# Altium schematic symbol library 8.1 - 模组类.SCHLIB: 4 symbols
Pins are listed as number, name and electrical type; pins without a type are passive.

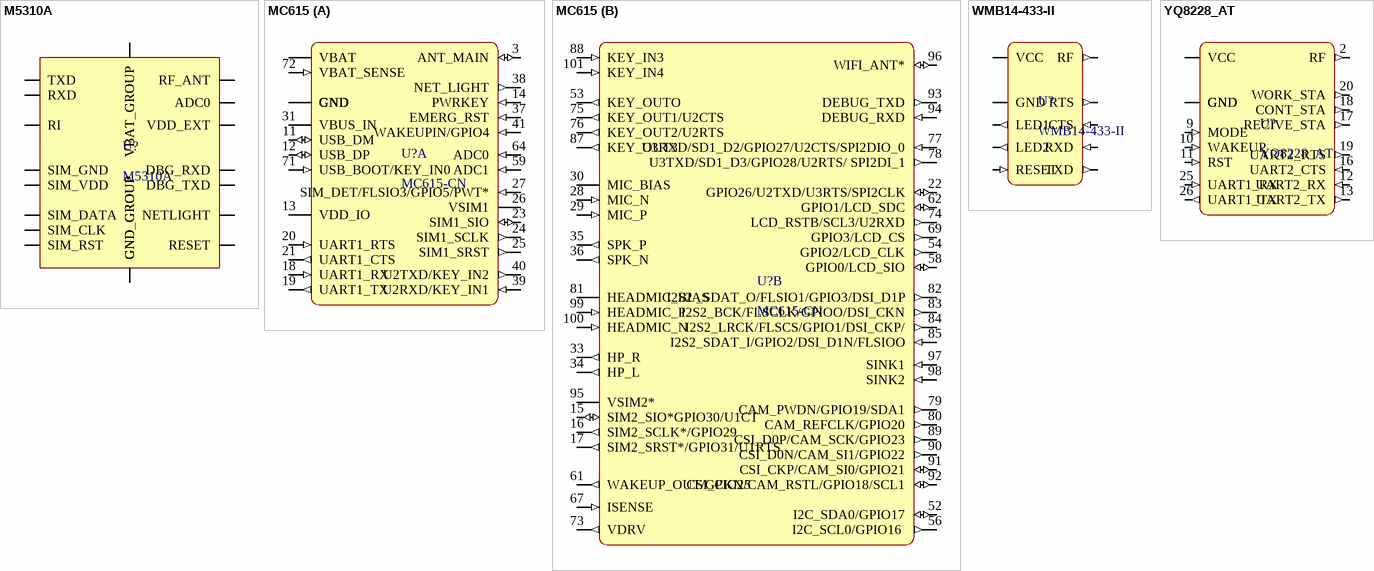
[diagram p0: symbols M5310A to YQ8228_AT]

## M5310A
designator U?
M5310-A 模组是一款基于 Hi2115 平台的工业级 NB-IOT 通信模组，贴片式LCC-30pin封装，19mm×18.4mm×2.2mm
footprint LCC30 (适用于移动NB模组_M5310系列)
pins: 1 TXD, 2 RXD, 3 RESERVED hidden, 4 RESERVED hidden, 5 RESERVED hidden, 6 RESERVED hidden, 7 ADC0, 8 SIM_GND, 9 RESERVED hidden, 10 SIM_DATA, 11 SIM_VDD, 12 SIM_CLK, 13 SIM_RST, 14 RESERVED hidden, 15 RESET, 16 VDD_EXT, 17 RESERVED hidden, 18 DBG_TXD, 19 DBG_RXD, 20 RESERVED hidden, 21 NETLIGHT, 22 RESERVED hidden, 23 RI, 24 VBAT_GROUP, 25 VBAT_GROUP, 26 GND_GROUP, 27 GND_GROUP, 28 RF_ANT, 29 GND_GROUP, 30 GND_GROUP

## MC615
designator U?, comment MC615-CN
MC615-CN 系列模块采用 LCC 50PIN+LGA 51PIN 封装，共 101 个管脚，适用于 TDD-LTE/FDD-LTE 多种网络制式、多频段的宽带无线终端产品。
footprint LCC_50+LGA_51 (适用于MC615系列CAT1模组)
part A pins: 1 GND "地", 2 GND "地", 3 ANT_MAIN (io) "主集天线", 4 GND "地", 5 GND "地", 6 NC hidden "-", 7 GND "地", 8 GND "地", 9 VBAT "VBAT模块电源输入(3.4-4.3V)", 10 VBAT "VBAT模块电源输入(3.4-4.3V)", 11 USB_DM (io) "USB信号DM", 12 USB_DP (io) "USB信号DP", 13 VDD_IO "模块数字电平，1.8V输出", 14 PWRKEY (in) "模块开机/关机，低电平有效", 18 UART1_RX (in) "模块串口1数据接收", 19 UART1_TX (out) "模块串口1数据发送", 20 UART1_RTS (in) "DTE请求发送数据", 21 UART1_CTS (out) "模块清除发送，可通过软件修改作为CPIog端口，建议预留测试点", 23 SIM1_SIO (io) "USIM1数据信号线", 24 SIM1_SCLK (out) "USIM1时钟信号线", 25 SIM1_SRST (out) "USIM1复位信号线", 26 VSIM1 "USIM1电源", 27 SIM_DET/FLSIO3/GPIO5/PWT* (in) "模块SIM热插拔检测管脚，不用时建议10K接地 ，可复用功能 SIM_DET/FLSIO3/GPIO5/PWT*", 31 VBUS_IN "USB插入输入检测", 32 GND "地", 37 EMERG_RST (in) "模块复位信号，低电平有效", 38 NET_LIGHT (out) "模块网络指示灯", 39 U2RXD/KEY_IN1 (in) "模块串口2数据接收，可复用功能KEY_IN1/U2RXD", 40 U2TXD/KEY_IN2 (out) "模块串口2数据接收，可复用功能KEY_IN2/U2TXD", 41 WAKEUPIN/GPIO4 (in) "外部设备唤醒模块 ，可复用功能 FLSIO2/GPIO4/PWL*", 42 GND "地", 43 GND "地", 44 GND "地", 45 GND "地", 46 GND "地", 47 GND "地", 48 GND "地", 49 GND "地", 50 GND "地", 51 GND "地", 55 GND "地", 57 GND "地", 59 ADC1 (in) "模数转换器接口1 使用时串联1k", 60 GND "地", 63 GND "地", 64 ADC0 (in) "模数转换接口 0 使用时串联1k", 65 GND "地", 66 GND "地", 68 GND "地", 70 GND "地", 71 USB_BOOT/KEY_IN0 (in) "Key pad input 0，键盘输入0，USB_BOOT拉高到1.8V会进入DL模式，KEYIN不能单独做按键使用", 72 VBAT_SENSE (in) "电池电压检测信号，尽可能靠近电池端子正极， 若不使用充电功能，需接到VBAT", 86 GND "地"
part B pins: 15 SIM2_SIO*GPIO30/U1CT (io) "USIM2数据信号线 ，可复用功能 GPIO30/SIM2_SIO/U1CT", 16 SIM2_SCLK*/GPIO29 (out) "USIM2时钟信号线 ，可复用功能 GPIO29/SIM2_SCLK", 17 SIM2_SRST*/GPIO31/U1RTS (out) "USIM2复位信号线 ，可复用功能 GPIO31/SIM2_SRST/U1RTS", 22 GPIO26/U2TXD/U3RTS/SPI2CLK (io) "GPIO26，可复用 GPIO26/U2TXD/U3RTS/SPI2CLK", 28 MIC_N (in) "主MIC差分输出负", 29 MIC_P (in) "主MIC差分输出正", 30 MIC_BIAS "主MIC偏置电压输出，内部未连接，外部使用时必须接到MIC信号", 33 HP_R (out) "耳机右声道信号输出", 34 HP_L (out) "耳机左声道信号输出", 35 SPK_P (out) "喇叭正极输出", 36 SPK_N (out) "喇叭负极输出", 52 I2C_SDA0/GPIO17 (io) "I2C接口数据信号 ，可复用功能I2C_SDAO/GPIO17", 53 KEY_OUTO (out) "KEYOUT0 KEY0UT不能单独做按键功能使用", 54 GPIO2/LCD_CLK (out) "GPIO2 ，可复用功能LCD_CLK/GPIO2", 56 I2C_SCL0/GPIO16  (out) "I2C接口时钟信号 I2C_SCLO/GPIO16 做GPIO使用时，GPIO16只能做输出", 58 GPIO0/LCD_SIO (io) "GPIO0 ，可复用功能LCD_SIO/GPIO0", 61 WAKEUP_OUT/GPIO25 (out) "模块输出唤醒信号 可复用功能 WAKEUP_0UT/GPIO25", 62 GPIO1/LCD_SDC (io) "GPIO1 可复用功能LCD_SDC/GPIO1", 67 ISENSE (in) "充电电流检测信号", 69 GPIO3/LCD_CS (out) "GPIO3 可复功能LCD_CS/GPIO3", 73 VDRV (out) "外部MOS管的充电驱动控制电压", 74 LCD_RSTB/SCL3/U2RXD (out) "LCD_RST 可复用功能 LCD_RSTB/SCL3/U2RXD 此管脚不支持GPIO功能", 75 KEY_OUT1/U2CTS (out) "KEYOUT1 KEYOUT不能单独使用 可复用功能KEY_OUT1/U2CTS", 76 KEY_OUT2/U2RTS (out) "KEYOUT2 KEYOUT不能单独使用 可复用功能KEY_OUT2/U2RTS", 77 U3RXD/SD1_D2/GPIO27/U2CTS/SPI2DIO_0 (in) "模块串口3数据接收 可复用功能 SD1_D2/GPIO27/U2CTS/U3RXD/SPI2DIO_0", 78 U3TXD/SD1_D3/GPIO28/U2RTS/ SPI2DI_1 (out) "模块串口3数据发送 可复用功能 SD1_D3/GPIO28/U2RTS/U3TXD/SPI2DI_1", 79 CAM_PWDN/GPIO19/SDA1 (out) "SPI camera power down 可复用功能 CAM_PWDN/GPIO19/SDA1", 80 CAM_REFCLK/GPIO20 (out) "SPI camera reference CLK 可复用功能 CAM_REFCLK/GPIO20", 81 HEADMIC_BIAS (power) "耳机MIC的偏置电压，内部未连接，外部使用 时必须接到HEADMIC信号", 82 I2S2 _SDAT_O/FLSIO1/GPIO3/DSI_D1P (out) "I2S数据输出信号 可复用功能 FLSIO1/GPIO3/DSI_D1P/I2S2_SDAT_0", 83 I2S2_BCK/FLSCLK/GPIOO/DSI_CKN (out) "I2S位（串行）时钟信号 可复用功能 FLSCLK/GPIOO/DSI_CKN/I2S2_BCK", 84 I2S2_LRCK/FLSCS/GPIO1/DSI_CKP/ (out) "I2S桢时钟或WS,用于切换声道 可复用功能 FLSCS/GPIO1/DSI_CKP/I2S2_LRCK", 85 I2S2_SDAT_I/GPIO2/DSI_D1N/FLSIOO (in) "I2S数据输入信号 可复用功能 GPIO2/DSI_D1N/I2S2_SDAT_I/FLSIOO", 87 KEY_OUT3 (out) "KEYOUT3 KEYOUT不能单独使用", 88 KEY_IN3 (in) "Key pad input 3，键盘输入 3 KEYIN不能单独使用", 89 CSI_D0P/CAM_SCK/GPIO23 (out) "MIPICSI_DATA_PO, CAM MIPI 数据 0 正端 可复用功能CAM_SCK/CSI_D0P/GPIO23", 90 CSI_D0N/CAM_SI1/GPIO22 (out) "MIPICSI_DATA_NO, CAM MIPI 数据 0 负端 可复用功能 CAM_SI1/CSI_D0N/GPIO22", 91 CSI_CKP/CAM_SI0/GPIO21 (io) "MIPICSI_CLOCK_P, CAM MIPI时钟正端 可复用功能 CAM_SIO/CSI_CKP/GPIO21", 92 CSI_CKN/CAM_RSTL/GPIO18/SCL1 (io) "MIPICSI_CLOCK_N, CAM MIPI 时钟负端 可复用功能 CSI_CKN/CAM_RSTL/GPIO18/SCL1", 93 DEBUG_TXD (out) "DEBUG串口发送 建议预留测试点", 94 DEBUG_RXD (in) "DEBUG串口接收 建议预留测试点", 95 VSIM2* "SIM2电源输出", 96 WIFI_ANT* (io) "BT&WIFI-SCAN*天线，使用时需外加滤波器", 97 SINK1 (in) "RGB LED电流源输入1，OPEN版本可配置电 流大小。Imax=54mA", 98 SINK2 (in) "RGB LED电流源输入2, OPEN版本可配置电 流大小。Imax=54mA", 99 HEADMIC_P (in) "耳机MIC输入正", 100 HEADMIC_N (in) "耳机MIC输入负", 101 KEY_IN4 (in) "Key pad input 4，键盘输入 4 KEYIN不能单独使用，不用则悬空"

## WMB14-433-II
designator U?
Friendcom Wireless M-Bus Module
footprint LCC30_L (适用于Friendcom WMB14-868_433-II 模组)
pins: 1 GND "Ground", 8 RTS (out) "Receive flow control (I), 1: idle, 0: busy.", 9 CTS (in) "Send flow control (O), 1: idle , 0: busy", 12 GND "Ground", 13 GND "Ground", 14 VCC "Power Supply. 2.0V to 3.6V, The typical value is 3.3V.", 15 GND "Ground", 16 GND "Ground", 17 RF (out) "RF pin, coonect with antenna", 18 GND "Ground", 19 GND "Ground", 25 LED1 (out) "LED1 output. If not needed, not connected. Active high", 26 LED2 (out) "LED2 output. If not needed, not connected. Active highLED2 output. If not needed, not connected. Active high", 27 RXD (in) "Serial port RX", 28 TXD (out) "Serial port RX", 29 RESET (in) "Reset pin (active in low)", 30 GND "Ground"

## YQ8228_AT
designator U?
基于BK3432蓝牙芯片设计的低功耗蓝牙通用模组，支持蓝牙串口透传和AT指令配置，0.9V~3.6V供电，带AT指令透传版本
footprint LCC26_YQ8828 (适用于YQ8828蓝牙模组)
pins: 1 GND "Ground", 2 RF (out) "RF pin, no connect in defult", 3 GND "Ground", 4 NC hidden, 6 NC hidden, 7 NC hidden, 8 P31 hidden, 9 MODE (in) "0：指令模式，1：透传模式", 10 WAKEUP (in) "0：唤醒，1：休眠", 11 RST (in) "Reset pin (active in low)", 12 UART2_RX (in) "AT&Serial port RX", 13 UART2_TX (out) "AT&Serial port TX", 14 GND "Ground", 15 VCC "Power Supply. 0.9V to 3.6V, The typical value is 3.3V.", 16 UART2_CTS (in) "0：BLE收到数据后通过串口发送，1：BLE收到数据后不发送", 17 RECIVE_STA (out) "0：未收到BLE主机数据，1：收到BLE主机数据", 18 CONT_STA (out) "0：BLE未连接，1：BLE连接状态", 19 UART2_RTS (out) "0：串口2空闲，1：串口2占用", 20 WORK_STA (out) "0：模组正在初始化，1：模组初始化完成", 21 P13 hidden, 22 P12 hidden, 23 P11 hidden, 24 P10 hidden, 25 UART1_RX (in) "DEBUG串口接收引脚", 26 UART1_TX (out) "DEBUG串口发送引脚"